# EAGLE library part CK1051_3X4 (library #PaJa_prepinace)
Otocny prepinac 3 x 4
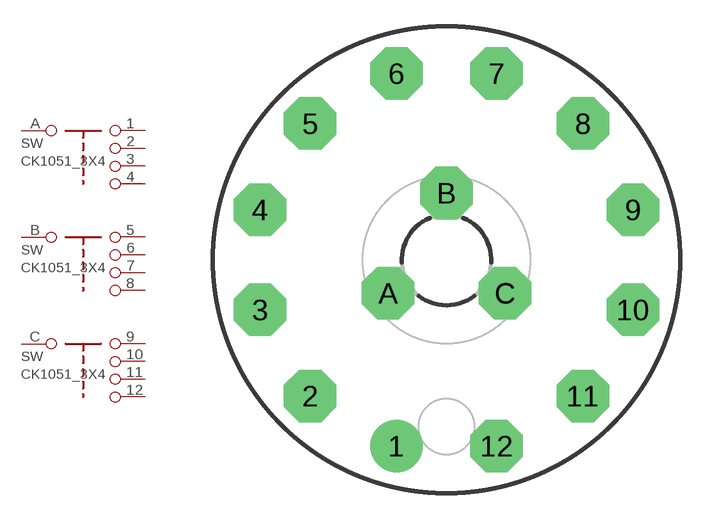
[diagram p3: symbol with the pads of SWITCH3X4; footprint SWITCH3X4]

Designator prefix SW; gates A=CK_4X B=CK_4X C=CK_4X

## CK1051_3X4  [SWITCH3X4]
1  A:1  pas
2  A:2  pas
3  A:3  pas
4  A:4  pas
5  B:1  pas
6  B:2  pas
7  B:3  pas
8  B:4  pas
9  C:1  pas
10  C:2  pas
11  C:3  pas
12  C:4  pas
A  A:A  pas
B  B:A  pas
C  C:A  pas

## Footprint SWITCH3X4 (pad centres in mm)
drill 1.5 pad 3 round: 1 -2.857,-10.636
drill 1.5 pad 3 octagon: 2 -7.779,-7.779; 3 -10.636,-2.857; 4 -10.636,2.857; 5 -7.779,7.779; 6 -2.857,10.636; 7 2.857,10.636; 8 7.779,7.779; 9 10.636,2.857; 10 10.636,-2.857; 11 7.779,-7.779; 12 2.857,-10.636; A -3.334,-1.905; B 0,3.81; C 3.334,-1.905